# EAGLE library part ADXL330 (library adxl330_long)
adxl adxl330 lfcsp lfcsp16 lfcsp-16
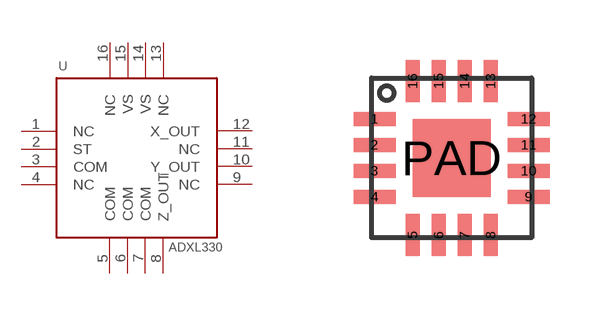
[diagram p0: symbol with the pads of LFCSP-16; footprint LFCSP-16]

Designator prefix -

## ADXL330  [LFCSP-16]
1  NC  nc
2  ST
3  COM  pwr
4  NC  nc
5  COM  pwr
6  COM  pwr
7  COM  pwr
8  Z_OUT  out
9  NC  nc
10  Y_OUT  out
11  NC  nc
12  X_OUT  out
13  NC  nc
14  VS  pwr
15  VS  pwr
16  NC  nc

## Footprint LFCSP-16 (pad centres in mm)
lfcsp lfcsp-16
smd 1.054 x 0.35: 1 -1.927,0.975; 2 -1.927,0.325; 3 -1.927,-0.325; 4 -1.927,-0.975; 9 1.927,-0.975; 10 1.927,-0.325; 11 1.927,0.325; 12 1.927,0.975
smd 0.35 x 1.054: 5 -0.975,-1.927; 6 -0.325,-1.927; 7 0.325,-1.927; 8 0.975,-1.927; 13 0.975,1.927; 14 0.325,1.927; 15 -0.325,1.927; 16 -0.975,1.927
smd 1.95 x 1.95: PAD 0,0